# Altium footprint library 直流无刷.PcbLib: 36 footprints (part 1 of 3)
Each footprint in its own frame and in the unit in brackets; x right, y up, seen from the top. Pads: shape width x height; smd on the part's side, far side on the other; paste and mask are expansions set on the pad; w line width, h text height; cw(c..) or ccw(c..) is an arc to the next point about the centre after c.
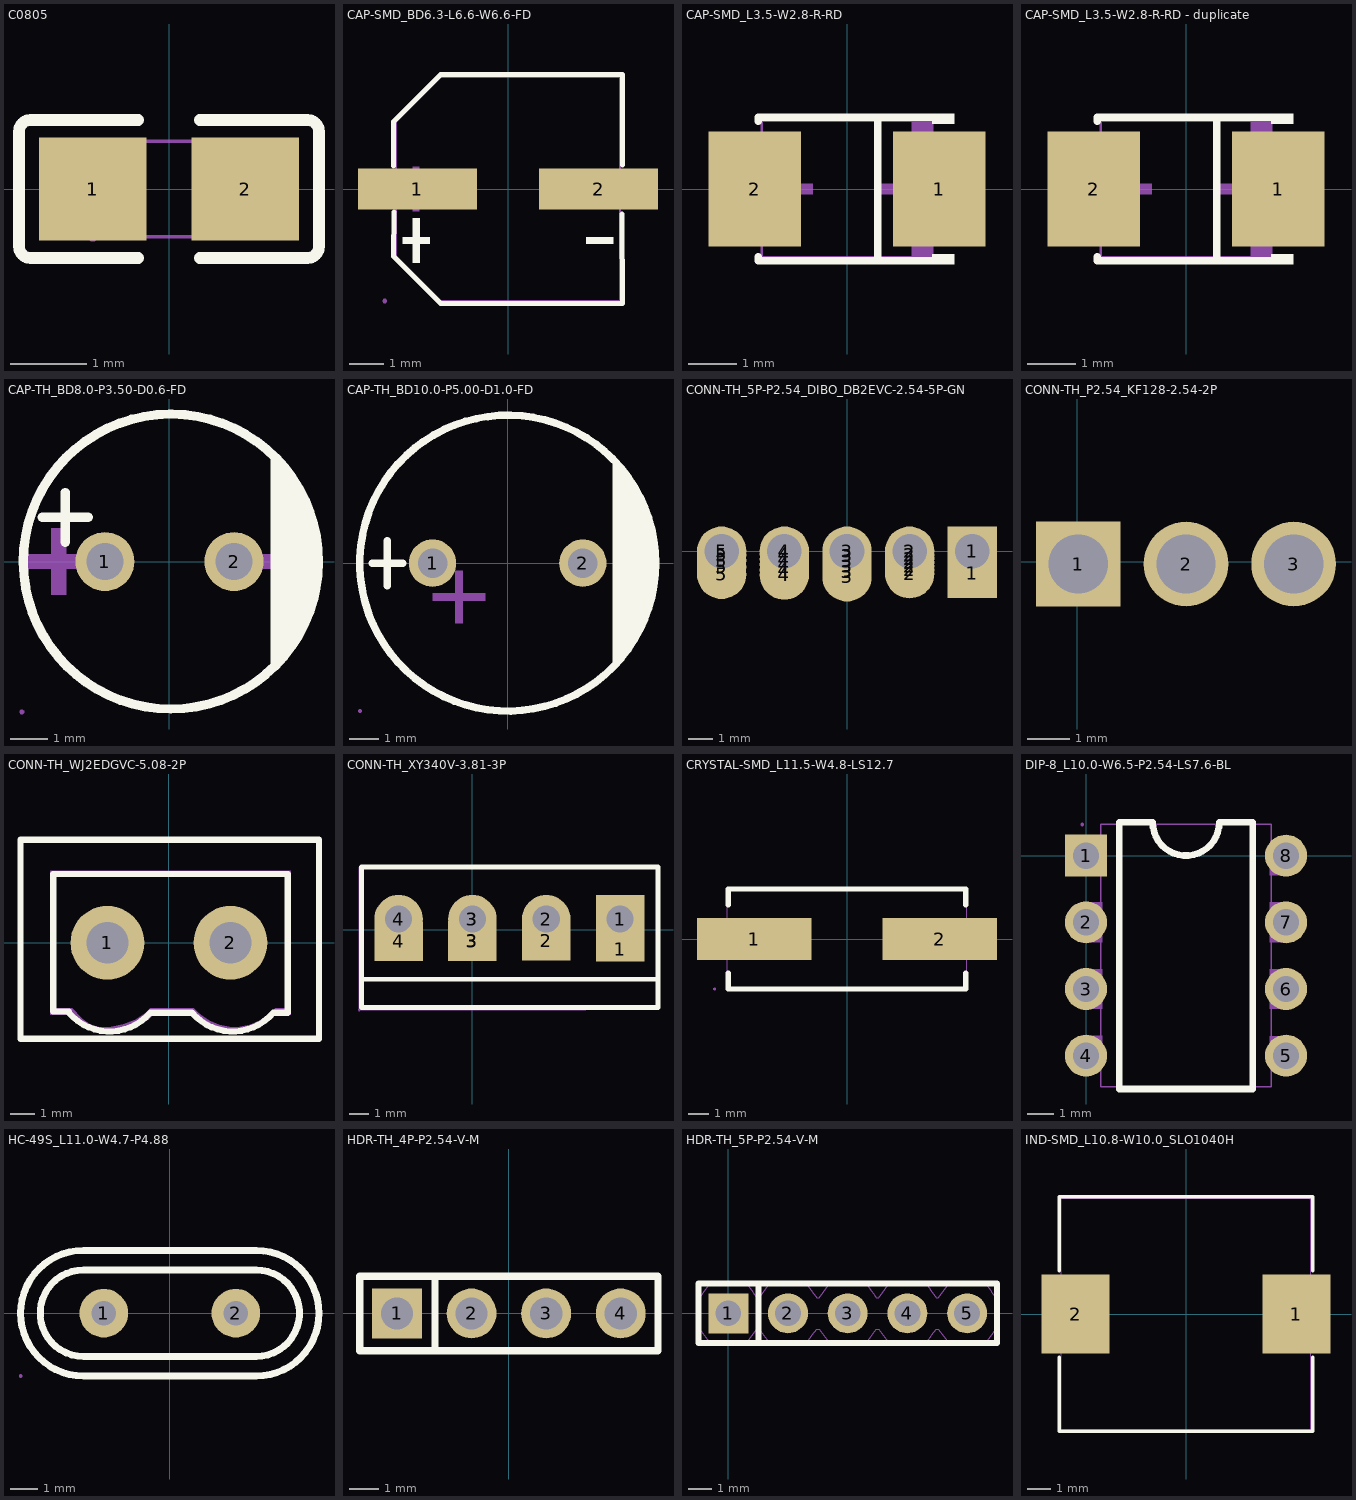
[diagram p0: the footprints below, top view; thin cyan lines are the x and y axes]

## C0805 [mm]
pads (2):
  rect 1.41x1.35 smd mask+0.051: 1(-1,0) 2(1,0)
Top Overlay:
  lines w0.152: -0.401,-0.904 -1.811,-0.904 cw(c-1.811,-0.751) -1.964,-0.751 -1.964,0.751 cw(c-1.811,0.751) -1.811,0.904 -0.401,0.904 ; 0.401,-0.904 1.811,-0.904 ccw(c1.811,-0.751) 1.964,-0.751 1.964,0.751 ccw(c1.811,0.751) 1.811,0.904 0.401,0.904
Top Paste:
  region: -1.675,-0.62 -1.675,0.66 -1.625,0.71 -0.475,0.71 -0.425,0.66 -0.42,0.25 -0.87,0.25 -0.87,-0.2 -0.43,-0.2 -0.425,-0.62 -0.475,-0.67 -1.625,-0.67
  region: 0.475,-0.62 0.475,-0.2 0.92,-0.2 0.92,0.25 0.48,0.25 0.475,0.66 0.525,0.71 1.675,0.71 1.725,0.66 1.725,-0.62 1.675,-0.67 0.525,-0.67
Mechanical 15:
  region: -0.94,-0.625 -0.94,-0.6 -0.975,-0.565 -1.025,-0.565 -1.06,-0.6 -1.06,-0.625 -1.06,-0.65 -1.025,-0.685 -0.975,-0.685 -0.94,-0.65
  region: -1,-0.625 -1,0.625 -0.5,0.625 -0.5,-0.625
  region: 1,0.625 1,-0.625 0.5,-0.625 0.5,0.625
  lines w0.051: -1,-0.625 -1,0.625 1,0.625 1,-0.625 -1,-0.625

## CAP-SMD_BD6.3-L6.6-W6.6-FD [mm]
pads (2):
  rect 3.5x1.2 smd paste+0 mask+0.051: 1(-2.67,0) 2(2.67,0)
Top Overlay:
  region: 3.102,-1.419 3.102,-1.617 2.31,-1.617 2.31,-1.419
  region: -3.102,-1.419 -3.102,-1.617 -2.31,-1.617 -2.31,-1.419
  region: -2.805,-0.858 -2.805,-2.178 -2.607,-2.178 -2.607,-0.858
  lines w0.152: -3.376,0.686 -3.376,1.98 -1.98,3.376 3.376,3.376 3.369,0.708 ; -3.362,-0.686 -3.376,-1.981 -1.981,-3.376 3.376,-3.376 3.356,-0.739
Mechanical 6:
  region: 3.102,0.099 3.102,-0.099 2.31,-0.099 2.31,0.099
  region: -3.102,0.099 -3.102,-0.099 -2.31,-0.099 -2.31,0.099
  region: -2.81,0.66 -2.81,-0.66 -2.612,-0.66 -2.612,0.66
Mechanical 15:
  region: -3.574,-3.3 -3.574,-3.275 -3.609,-3.24 -3.659,-3.24 -3.694,-3.275 -3.694,-3.3 -3.694,-3.325 -3.659,-3.36 -3.609,-3.36 -3.574,-3.325
  region: 1.067,0.325 3.667,0.325 3.667,-0.325 1.067,-0.325
  region: -3.634,0.325 -1.034,0.325 -1.034,-0.325 -3.634,-0.325
  lines w0.051: -3.3,-1.98 -1.98,-3.3 3.3,-3.3 3.3,3.3 -1.98,3.3 -3.3,1.98 -3.3,-1.98

## CAP-SMD_L3.5-W2.8-R-RD [mm]
pads (2):
  rect 1.9x2.376 smd paste+0 mask+0.051: 1(1.899,0) 2(-1.899,0)
Top Overlay:
  region: 1.75,-1.552 1.75,-1.34 2.207,-1.34 2.207,-1.552
  region: 1.75,1.552 1.75,1.34 2.207,1.34 2.207,1.552
  lines w0.152: -1.826,-1.391 -1.826,-1.476 1.826,-1.476 ; -1.826,1.391 -1.826,1.476 1.826,1.476 ; 0.635,-1.476 0.635,1.476
Mechanical 6:
  region: 1.75,1.4 1.75,0.7 1.33,0.7 1.33,1.4
  region: 1.75,-1.4 1.75,-0.7 1.33,-0.7 1.33,-1.4
  region: 1.225,-0.7 1.225,0.7 1.015,0.7 1.015,-0.7
  region: 1.54,-0.105 1.54,0.105 0.7,0.105 0.7,-0.105
  region: -1.54,-0.105 -1.54,0.105 -0.7,0.105 -0.7,-0.105
Mechanical 15:
  region: 1.75,-1.1 1.75,1.1 1.05,1.1 1.05,-1.1
  region: -1.75,-1.1 -1.75,1.1 -1.05,1.1 -1.05,-1.1
  region: 1.81,1.4 1.81,1.425 1.775,1.46 1.725,1.46 1.69,1.425 1.69,1.4 1.69,1.375 1.725,1.34 1.775,1.34 1.81,1.375
  lines w0.051: -1.75,-1.4 1.75,-1.4 1.75,1.4 -1.75,1.4 -1.75,-1.4

## CAP-SMD_L3.5-W2.8-R-RD - duplicate [mm]
pads (2):
  rect 1.9x2.376 smd paste+0 mask+0.051: 1(1.899,0) 2(-1.899,0)
Top Overlay:
  region: 1.75,-1.552 1.75,-1.34 2.207,-1.34 2.207,-1.552
  region: 1.75,1.552 1.75,1.34 2.207,1.34 2.207,1.552
  lines w0.152: -1.826,-1.391 -1.826,-1.476 1.826,-1.476 ; -1.826,1.391 -1.826,1.476 1.826,1.476 ; 0.635,-1.476 0.635,1.476
Mechanical 6:
  region: 1.75,1.4 1.75,0.7 1.33,0.7 1.33,1.4
  region: 1.75,-1.4 1.75,-0.7 1.33,-0.7 1.33,-1.4
  region: 1.225,-0.7 1.225,0.7 1.015,0.7 1.015,-0.7
  region: 1.54,-0.105 1.54,0.105 0.7,0.105 0.7,-0.105
  region: -1.54,-0.105 -1.54,0.105 -0.7,0.105 -0.7,-0.105
Mechanical 15:
  region: 1.75,-1.1 1.75,1.1 1.05,1.1 1.05,-1.1
  region: -1.75,-1.1 -1.75,1.1 -1.05,1.1 -1.05,-1.1
  region: 1.81,1.4 1.81,1.425 1.775,1.46 1.725,1.46 1.69,1.425 1.69,1.4 1.69,1.375 1.725,1.34 1.775,1.34 1.81,1.375
  lines w0.051: -1.75,-1.4 1.75,-1.4 1.75,1.4 -1.75,1.4 -1.75,-1.4

## CAP-TH_BD8.0-P3.50-D0.6-FD [mm]
pads (2):
  round 1.6 hole 1 mask+0.051: 1(-1.75,0) 2(1.75,0)
Top Overlay:
  region: 2.75,-3 2.941,-2.8 3.268,-2.355 3.536,-1.872 3.741,-1.359 3.88,-0.824 3.95,-0.276 3.95,0.276 3.88,0.824 3.741,1.359 3.536,1.872 3.268,2.355 2.941,2.8 2.75,3
  lines w0.254: -3.445,1.2 -2.2,1.2 ; -2.822,0.527 -2.822,1.873 ; 0.003,4.001 ccw(c0.038,0.002) 0.074,4.001
Mechanical 6:
  region: 3.5,0.2 2.1,0.2 2.1,-0.2 3.7,-0.2 3.9,-0.2 3.9,0.2
  region: -2.5,0.2 -3.9,0.2 -3.9,-0.2 -2.3,-0.2 -2.1,-0.2 -2.1,0.2
  region: -3.2,0.5 -3.2,-0.9 -2.8,-0.9 -2.8,0.7 -2.8,0.9 -3.2,0.9
Mechanical 15:
  region: -3.941,-4.072 -3.941,-4.047 -3.976,-4.012 -4.026,-4.012 -4.061,-4.047 -4.061,-4.072 -4.061,-4.096 -4.026,-4.132 -3.976,-4.132 -3.941,-4.096
  region: 2.05,0 2.05,0.06 2.004,0.17 1.92,0.254 1.81,0.3 1.69,0.3 1.58,0.254 1.496,0.17 1.45,0.06 1.45,0 1.45,-0.06 1.496,-0.17 1.58,-0.254 1.69,-0.3 1.81,-0.3 1.92,-0.254 2.004,-0.17 2.05,-0.06
  region: -1.45,0 -1.45,0.06 -1.496,0.17 -1.58,0.254 -1.69,0.3 -1.81,0.3 -1.92,0.254 -2.004,0.17 -2.05,0.06 -2.05,0 -2.05,-0.06 -2.004,-0.17 -1.92,-0.254 -1.81,-0.3 -1.69,-0.3 -1.58,-0.254 -1.496,-0.17 -1.45,-0.06
  lines w0.051: -0.003,-4.072 cw(c-0.001,-0.072) 0,-4.072 -0.003,-4.072

## CAP-TH_BD10.0-P5.00-D1.0-FD [mm]
pads (2):
  round 1.6 hole 1 mask+0.051: 1(-2.54,0) 2(2.54,0)
Top Overlay:
  circle w0.254: c0,0 r5
  region: 3.556,3.556 3.556,-3.556 4.318,-2.54 4.826,-1.016 5.08,0.508 4.826,1.524
  lines w0.254: -4.572,0 -3.556,0 ; -4.064,-0.762 -4.064,0.762
Mechanical 6:
  region: -1.778,-0.762 -1.778,-2.032 -1.524,-2.032 -1.524,-0.254 -1.778,-0.254
  region: -2.54,-1.016 -0.762,-1.016 -0.762,-1.27 -2.54,-1.27
Mechanical 15:
  region: -2.24,0 -2.24,0.06 -2.286,0.17 -2.37,0.254 -2.48,0.3 -2.6,0.3 -2.71,0.254 -2.794,0.17 -2.84,0.06 -2.84,0 -2.84,-0.06 -2.794,-0.17 -2.71,-0.254 -2.6,-0.3 -2.48,-0.3 -2.37,-0.254 -2.286,-0.17 -2.24,-0.06
  region: 2.84,0 2.84,0.06 2.794,0.17 2.71,0.254 2.6,0.3 2.48,0.3 2.37,0.254 2.286,0.17 2.24,0.06 2.24,0 2.24,-0.06 2.286,-0.17 2.37,-0.254 2.48,-0.3 2.6,-0.3 2.71,-0.254 2.794,-0.17 2.84,-0.06
  region: -4.94,-5 -4.94,-4.975 -4.975,-4.94 -5.025,-4.94 -5.06,-4.975 -5.06,-5 -5.06,-5.025 -5.025,-5.06 -4.975,-5.06 -4.94,-5.025
  lines w0.051: -5,0 ccw(c0,0) 5,0 ccw(c0,0) -5,0

## CONN-TH_5P-P2.54_DIBO_DB2EVC-2.54-5P-GN [mm]
pads (30):
  rect 2x2 all layers, no hole mask+0.05: 1(5.08,-0.889)
  rect 2x2 hole 1.4 mask+0.05: 1(5.08,0)
  round 2 all layers, no hole mask+0.05: 2(2.54,-0.914) 2(2.54,-0.762) 2(2.54,-0.61) 2(2.54,-0.61) 2(2.54,-0.457) 2(2.54,-0.305) 2(2.54,-0.152) 3(0,-1.041) 3(0,-0.838) 3(0,-0.838) 3(0,-0.61) 3(0,-0.406) 3(0,-0.178) 3(0,-0.178) 4(-2.54,-0.965) 4(-2.54,-0.965) 4(-2.54,-0.762) 4(-2.54,-0.533) 4(-2.54,-0.33) 4(-2.54,-0.127) 5(-5.08,-0.94) 5(-5.08,-0.635) 5(-5.08,-0.381) 5(-5.08,-0.152)
  round 2 hole 1.4 mask+0.05: 2(2.54,0) 3(0,0) 4(-2.54,0) 5(-5.08,0)
Mechanical 15:
  region: 5.48,-0.4 4.68,-0.4 4.68,0.4 5.48,0.4
  region: 2.94,-0.4 2.14,-0.4 2.14,0.4 2.94,0.4
  region: 0.4,-0.4 -0.4,-0.4 -0.4,0.4 0.4,0.4
  region: -2.14,-0.4 -2.94,-0.4 -2.94,0.4 -2.14,0.4
  region: -4.68,-0.4 -5.48,-0.4 -5.48,0.4 -4.68,0.4

## CONN-TH_P2.54_KF128-2.54-2P [mm]
pads (3):
  rect 2x2 hole 1.4 mask+0.05: 1(0.025,-0.051)
  round 2 hole 1.4 mask+0.05: 2(2.565,-0.051) 3(5.105,-0.051)
Mechanical 15:
  region: -0.375,0.349 0.425,0.349 0.425,-0.451 -0.375,-0.451
  region: 2.165,0.349 2.965,0.349 2.965,-0.451 2.165,-0.451
  region: 4.705,0.349 5.505,0.349 5.505,-0.451 4.705,-0.451

## CONN-TH_WJ2EDGVC-5.08-2P [mm]
pads (2):
  round 3 hole 1.7 mask+0.051: 1(-2.499,0) 2(2.499,0)
Top Overlay:
  lines w0.254: -4.064,-2.839 ccw(c-2.413,-1.432) -0.762,-2.839 0.935,-2.839 ccw(c2.586,-1.432) 4.237,-2.839 4.826,-2.839 4.826,2.794 -4.699,2.794 -4.699,-2.794 -4.191,-2.794 -4.064,-2.794 ; -6.03,-3.9 6.096,-3.9 6.096,4.191 -6.03,4.191 -6.03,-3.9
Mechanical 6:
  region: 4.826,-2.667 4.826,2.794 -4.699,2.794 -4.699,-2.794 -4.826,-2.794 -4.826,2.921 4.953,2.921 4.953,-2.667
  region: 4.318,-2.667 4.185,-2.8 4.029,-2.942 3.679,-3.176 3.29,-3.337 2.877,-3.419 2.667,-3.429 2.457,-3.419 2.044,-3.337 1.655,-3.176 1.305,-2.942 1.149,-2.8 1.016,-2.667 -0.762,-2.667 -0.951,-2.838 -1.375,-3.122 -1.846,-3.317 -2.347,-3.416 -2.602,-3.429 -2.667,-3.429 -2.787,-3.423 -3.023,-3.376 -3.245,-3.284 -3.445,-3.151 -3.534,-3.07 -3.937,-2.667 -4.826,-2.667 -4.826,-2.921 -3.937,-2.921 -3.624,-3.234 -3.517,-3.341 -3.266,-3.509 -2.987,-3.624 -2.691,-3.683 -2.54,-3.683 -2.475,-3.683 -2.218,-3.683 -1.716,-3.583 -1.242,-3.387 -0.816,-3.102 -0.635,-2.921 0.889,-2.921 0.933,-2.965 1.103,-3.135 1.505,-3.404 1.952,-3.589 2.425,-3.683 2.667,-3.683 2.878,-3.683 3.293,-3.601 3.684,-3.439 4.035,-3.204 4.185,-3.054 4.318,-2.921 4.953,-2.921 4.953,-2.667
Mechanical 15:
  region: -5.97,4.15 -5.97,4.175 -6.005,4.21 -6.055,4.21 -6.09,4.175 -6.09,4.15 -6.09,4.125 -6.055,4.09 -6.005,4.09 -5.97,4.125
  region: 1.999,0.5 2.999,0.5 2.999,-0.5 1.999,-0.5
  region: -2.999,0.5 -1.999,0.5 -1.999,-0.5 -2.999,-0.5
  lines w0.051: -6.03,-3.9 6.03,-3.9 6.03,4.15 -6.03,4.15 -6.03,-3.9

## CONN-TH_XY340V-3.81-3P [mm]
pads (10):
  rect 2.5x1.27 all layers, no hole: 1(7.62,-0.991)
  rect 2.5x2.5 hole 1.4: 1(7.62,0.559)
  rect 2.5x2.032 all layers, no hole: 2(3.81,-0.559) 3(0,-0.584) 3(0,-0.559) 4(-3.81,-0.584)
  round 2.5 hole 1.4: 2(3.81,0.559) 3(0,0.559) 3(0,0.559) 4(-3.81,0.559)
Top Overlay:
  lines w0.254: -5.715,-2.545 9.525,-2.545 ; -5.715,-4 9.576,-4 9.576,3.251 -5.715,3.251 -5.715,-4
Mechanical 15:
  region: -4.41,0.559 -4.41,0.439 -4.319,0.219 -4.15,0.05 -3.929,-0.041 -3.691,-0.041 -3.47,0.05 -3.301,0.219 -3.21,0.439 -3.21,0.559 -3.21,0.678 -3.301,0.899 -3.47,1.067 -3.691,1.159 -3.929,1.159 -4.15,1.067 -4.319,0.899 -4.41,0.678
  region: -0.6,0.559 -0.6,0.439 -0.509,0.219 -0.34,0.05 -0.119,-0.041 0.119,-0.041 0.34,0.05 0.509,0.219 0.6,0.439 0.6,0.559 0.6,0.678 0.509,0.899 0.34,1.067 0.119,1.159 -0.119,1.159 -0.34,1.067 -0.509,0.899 -0.6,0.678
  region: -0.6,0.559 -0.6,0.439 -0.509,0.219 -0.34,0.05 -0.119,-0.041 0.119,-0.041 0.34,0.05 0.509,0.219 0.6,0.439 0.6,0.559 0.6,0.678 0.509,0.899 0.34,1.067 0.119,1.159 -0.119,1.159 -0.34,1.067 -0.509,0.899 -0.6,0.678
  region: 3.21,0.559 3.21,0.439 3.301,0.219 3.47,0.05 3.691,-0.041 3.929,-0.041 4.15,0.05 4.319,0.219 4.41,0.439 4.41,0.559 4.41,0.678 4.319,0.899 4.15,1.067 3.929,1.159 3.691,1.159 3.47,1.067 3.301,0.899 3.21,0.678
  region: 7.02,0.559 7.02,0.439 7.111,0.219 7.28,0.05 7.501,-0.041 7.739,-0.041 7.96,0.05 8.129,0.219 8.22,0.439 8.22,0.559 8.22,0.678 8.129,0.899 7.96,1.067 7.739,1.159 7.501,1.159 7.28,1.067 7.111,0.899 7.02,0.678
  region: -5.782,-4.127 -5.782,-4.102 -5.817,-4.067 -5.867,-4.067 -5.902,-4.102 -5.902,-4.127 -5.902,-4.152 -5.867,-4.187 -5.817,-4.187 -5.782,-4.152
  lines w0.051: 5.842,-4.127 -5.842,-4.127 -5.842,3.227 5.842,3.227

## CRYSTAL-SMD_L11.5-W4.8-LS12.7 [mm]
pads (2):
  rect 5.5x2 smd mask+0.051: 1(-4.45,0) 2(4.45,0)
Top Overlay:
  lines w0.254: -5.7,-1.65 -5.7,-2.4 5.7,-2.4 5.7,-1.65 ; -5.7,1.65 -5.7,2.4 5.7,2.4 5.7,1.65
Mechanical 15:
  region: -6.29,-2.4 -6.29,-2.375 -6.325,-2.34 -6.375,-2.34 -6.41,-2.375 -6.41,-2.4 -6.41,-2.425 -6.375,-2.46 -6.325,-2.46 -6.29,-2.425
  region: 6.35,-0.4 1.85,-0.4 1.85,0.4 6.35,0.4
  region: -6.35,0.4 -1.85,0.4 -1.85,-0.4 -6.35,-0.4
  lines w0.051: -5.75,-2.4 -5.75,2.4 5.75,2.4 5.75,-2.4 -5.75,-2.4

## DIP-8_L10.0-W6.5-P2.54-LS7.6-BL [mil]
pads (8):
  rect 63x63 hole 39.37 mask+2: 1(0,0)
  round 63 hole 39.37 mask+2: 2(0,-100) 3(0,-200) 4(0,-300) 5(300,-300) 6(300,-200) 7(300,-100) 8(300,0)
Top Overlay:
  lines w10: 50,-350 50,50 100,50 ccw(c150,50) 200,50 250,50 250,-350 50,-350
Mechanical 6:
  circle w15.75: c0.39,15.35 r7.87
Mechanical 15:
  region: 305.51,-69.98 275.98,-70.08 275.98,-129.92 305.51,-129.97
  region: 305.51,-169.98 275.98,-170.08 275.98,-229.92 305.51,-229.97
  region: -5.51,-230.02 24.02,-229.92 24.02,-170.08 -5.51,-170.03
  region: -5.51,-308.98 24.02,-308.9 24.02,-270.49 -5.51,-270.49
  region: 305.51,8.98 275.99,8.9 275.99,-29.51 305.51,-29.51
  region: 305.51,-270.49 275.98,-270.57 275.98,-308.98 305.51,-308.98
  region: -5.51,-130.02 24.02,-129.92 24.02,-70.08 -5.51,-70.03
  region: -5.51,-8.96 -5.51,8.96 5.51,8.96 5.51,-8.96
  region: -5.51,-29.51 24.02,-29.43 24.02,8.98 -5.51,8.98
  region: -5.51,-308.96 -5.51,-291.04 5.51,-291.04 5.51,-308.96
  region: -5.51,-208.96 -5.51,-191.04 5.51,-191.04 5.51,-208.96
  region: -5.51,-108.96 -5.51,-91.04 5.51,-91.04 5.51,-108.96
  region: 305.51,-291.04 305.51,-308.96 294.49,-308.96 294.49,-291.04
  region: 305.51,-191.04 305.51,-208.96 294.49,-208.96 294.49,-191.04
  region: 305.51,-91.04 305.51,-108.96 294.49,-108.96 294.49,-91.04
  region: 305.51,8.96 305.51,-8.96 294.49,-8.96 294.49,8.96
  region: -5.51,44.49 -4.53,44.49 -3.15,45.87 -3.15,47.83 -4.53,49.21 -5.51,49.21 -6.49,49.21 -7.87,47.83 -7.87,45.87 -6.49,44.49
  lines w2: 22.05,-346.85 22.05,46.85 277.95,46.85 277.95,-346.85 22.05,-346.85

## HC-49S_L11.0-W4.7-P4.88 [mm]
pads (2):
  round 1.8 hole 0.9 mask+0.051: 1(-2.44,0) 2(2.44,0)
Top Overlay:
  lines w0.258: -3.2,-2.325 3.2,-2.325 ccw(c3.192,0) 3.2,2.324 ; -3.2,-2.324 cw(c-3.193,0) -3.2,2.325 3.2,2.325 ; -3.2,-1.6 cw(c-3.194,0) -3.2,1.6 3.2,1.6 cw(c3.194,0) 3.2,-1.6 -3.2,-1.6
Mechanical 15:
  region: -5.457,-2.325 -5.457,-2.3 -5.492,-2.265 -5.542,-2.265 -5.577,-2.3 -5.577,-2.325 -5.577,-2.35 -5.542,-2.385 -5.492,-2.385 -5.457,-2.35
  region: -2.225,0 -2.225,0.043 -2.258,0.122 -2.318,0.182 -2.397,0.215 -2.483,0.215 -2.562,0.182 -2.622,0.122 -2.655,0.043 -2.655,0 -2.655,-0.043 -2.622,-0.122 -2.562,-0.182 -2.483,-0.215 -2.397,-0.215 -2.318,-0.182 -2.258,-0.122 -2.225,-0.043
  region: 2.655,0 2.655,0.043 2.622,0.122 2.562,0.182 2.483,0.215 2.397,0.215 2.318,0.182 2.258,0.122 2.225,0.043 2.225,0 2.225,-0.043 2.258,-0.122 2.318,-0.182 2.397,-0.215 2.483,-0.215 2.562,-0.182 2.622,-0.122 2.655,-0.043
  lines w0.051: -5.517,-0.01 ccw(c-3.192,0.001) -3.203,-2.324 -3.2,-2.325 3.2,-2.325 ccw(c3.192,0) 5.517,-0.008 5.517,0 ccw(c3.192,0) 3.192,2.325 -3.2,2.325 ccw(c-3.192,0) -5.517,0.008 -5.517,-0.01

## HDR-TH_4P-P2.54-V-M [mm]
pads (4):
  rect 1.7x1.7 hole 1.1 mask+0.051: 1(-3.81,0)
  round 1.7 hole 1.1 mask+0.051: 2(-1.27,0) 3(1.27,0) 4(3.81,0)
Top Overlay:
  lines w0.254: -2.516,-1.27 -2.516,1.27 ; -2.516,1.27 5.08,1.27 5.08,-1.27 -5.08,-1.27 -5.08,1.27 -2.516,1.27
Mechanical 15:
  region: -5.02,-1.25 -5.02,-1.225 -5.055,-1.19 -5.105,-1.19 -5.14,-1.225 -5.14,-1.25 -5.14,-1.275 -5.105,-1.31 -5.055,-1.31 -5.02,-1.275
  region: -4.13,0.32 -3.49,0.32 -3.49,-0.32 -4.13,-0.32
  region: -1.59,0.32 -0.95,0.32 -0.95,-0.32 -1.59,-0.32
  region: 0.95,0.32 1.59,0.32 1.59,-0.32 0.95,-0.32
  region: 3.49,0.32 4.13,0.32 4.13,-0.32 3.49,-0.32
  lines w0.051: -5.08,-1.25 -5.08,1.25 5.08,1.25 5.08,-1.25 -5.08,-1.25

## HDR-TH_5P-P2.54-V-M [mm]
pads (5):
  rect 1.7x1.7 hole 1.1 mask+0.051: 1(0,0)
  round 1.7 hole 1.1 mask+0.051: 2(2.54,0) 3(5.08,0) 4(7.62,0) 5(10.16,0)
Top Overlay:
  lines w0.254: 1.294,-1.27 1.294,1.27 ; -1.27,-1.27 -1.27,1.27 11.43,1.27 11.43,-1.27 -1.27,-1.27
Mechanical 15:
  region: -0.32,0.32 0.32,0.32 0.32,-0.32 -0.32,-0.32
  region: 2.22,0.32 2.86,0.32 2.86,-0.32 2.22,-0.32
  region: 4.76,0.32 5.4,0.32 5.4,-0.32 4.76,-0.32
  region: 7.3,0.32 7.94,0.32 7.94,-0.32 7.3,-0.32
  region: 9.84,0.32 10.48,0.32 10.48,-0.32 9.84,-0.32
  region: -1.21,-1.271 -1.21,-1.246 -1.245,-1.211 -1.295,-1.211 -1.33,-1.246 -1.33,-1.271 -1.33,-1.296 -1.295,-1.331 -1.245,-1.331 -1.21,-1.296
  lines w0.051: -1.27,-0.67 -1.27,-0.67 -1.22,-0.67 -0.77,-1.27 0.77,-1.27 1.003,-0.965 1.22,-0.67 1.32,-0.67 1.77,-1.27 3.31,-1.27 3.538,-0.972 3.577,-0.919 3.76,-0.67 3.86,-0.67 4.31,-1.27 5.85,-1.27 6.072,-0.98 6.1,-0.942 6.3,-0.67 6.4,-0.67 6.85,-1.27 8.39,-1.271 8.59,-1.009 8.625,-0.963 8.661,-0.913 8.839,-0.67 8.94,-0.67 9.39,-1.27 10.93,-1.27 11.155,-0.976 11.38,-0.67 11.43,-0.67 11.43,0.67 11.38,0.67 11.192,0.925 11.159,0.97 10.93,1.27 9.391,1.27 8.94,0.67 8.84,0.67 8.613,0.979 8.538,1.076 8.39,1.27 6.85,1.27 6.4,0.67 6.3,0.67 6.216,0.783 6.188,0.822 6.09,0.955 5.947,1.143 5.85,1.27 4.31,1.27 3.86,0.67 3.76,0.67 3.663,0.801 3.644,0.827 3.621,0.859 3.534,0.976 3.449,1.088 3.31,1.27 1.77,1.27 1.32,0.67 1.22,0.67 1.063,0.884 1.032,0.925 0.931,1.059 0.77,1.27 -0.77,1.27 -0.948,1.032 -1.219,0.67 -1.27,0.67 -1.27,-0.67 ; -1.27,-0.67 -1.27,-0.67

## IND-SMD_L10.8-W10.0_SLO1040H [mm]
pads (2):
  rect 2.924x3.42 smd mask+0.051: 1(4.778,0) 2(-4.778,0)
Top Overlay:
  lines w0.152: -5.476,-1.862 -5.476,-5.076 5.476,-5.076 5.476,-1.862 ; -5.476,1.862 -5.476,5.076 5.476,5.076 5.476,1.862
Mechanical 15:
  region: 5.46,5 5.46,5.025 5.425,5.06 5.375,5.06 5.34,5.025 5.34,5 5.34,4.975 5.375,4.94 5.425,4.94 5.46,4.975
  region: -5.4,-1.5 -5.4,1.5 -3.4,1.5 -3.4,-1.5
  region: 5.4,-1.5 5.4,1.5 3.4,1.5 3.4,-1.5
  lines w0.051: -5.4,-5 -5.4,5 5.4,5 5.4,-5 -5.4,-5